# Altium integrated library RES 0805.IntLib: 17 symbols
Pins are listed as number, name and electrical type; pins without a type are passive.

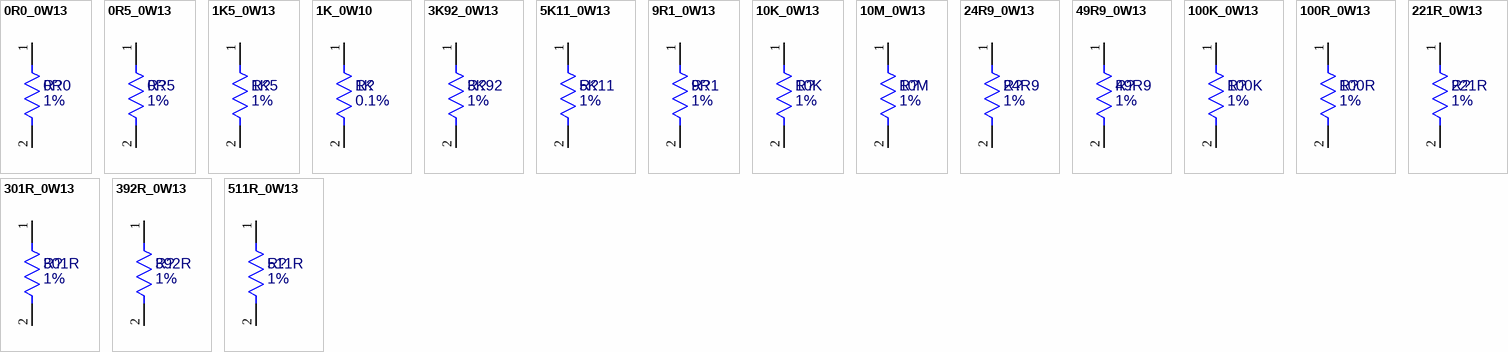
[diagram p0: symbols 0R0_0W13 to 511R_0W13]

## 0R0_0W13
designator R?, comment value 0R0  Tolerance: 1%  (hidden comment: 27452-0014)
Resistor, 0.0 Ohms; Power Rating: 0W13; ECAD_Revision: 1; Librariain: US; PartNumber: 27452-0014; Item: *
footprint R0805
pins: 1, 2

## 0R5_0W13
designator R?, comment value 0R5  Tolerance: 1%  (hidden comment: AWT25-500108)
Resistor, 0.50 Ohms; Power Rating: 0W13; ECAD_Revision: 1; Librariain: US; PartNumber: AWT25-500108; Item: *
footprint R0805
pins: 1, 2

## 1K5_0W13
designator R?, comment value 1K5  Tolerance: 1%  (hidden comment: 48668-3097)
Resistor, 1.5K; Power Rating: 0W13; ECAD_Revision: 1; Librariain: US; PartNumber: 48668-3097; Item: *
footprint R0805
pins: 1, 2

## 1K_0W10
designator R?, comment value 1K  Tolerance: 0.1%  (hidden comment: AWT25-500096)
Resistor, 1K Ultra Precision; Power Rating: 0W10; ECAD_Revision: 1; Librariain: US; PartNumber: AWT25-500096; Item: *; HelpURL: K:\ACCELEDA\PDF Spec Files\Resistor\RN73.pdf
footprint R0805
pins: 1, 2

## 3K92_0W13
designator R?, comment value 3K92  Tolerance: 1%  (hidden comment: 48668-3493)
Resistor, 3.92K; Power Rating: 0W13; ECAD_Revision: 1; Librariain: US; PartNumber: 48668-3493; Item: *
footprint R0805
pins: 1, 2

## 5K11_0W13
designator R?, comment value 5K11  Tolerance: 1%  (hidden comment: 48668-3600)
Resistor, 5.11K; Power Rating: 0W13; ECAD_Revision: 1; Librariain: US; PartNumber: 48668-3600; Item: *
footprint R0805
pins: 1, 2

## 9R1_0W13
designator R?, comment value 9R1  Tolerance: 1%  (hidden comment: 48668-0960)
Resistor, 9.1 Ohms; Power Rating: 0W13; ECAD_Revision: 1; Librariain: US; PartNumber: 48668-0960; Item: *
footprint R0805
pins: 1, 2

## 10K_0W13
designator R?, comment value 10K  Tolerance: 1%  (hidden comment: 48668-3881)
Resistor, 10K; Power Rating: 0W13; ECAD_Revision: 1; Librariain: US; PartNumber: 48668-3881; Item: *
footprint R0805
pins: 1, 2

## 10M_0W13
designator R?, comment value 10M  Tolerance: 1%  (hidden comment: 48668-6769)
Resistor, 10 MEG; Power Rating: 0W13; ECAD_Revision: 1; Librariain: US; PartNumber: 48668-6769; Item: *
footprint R0805
pins: 1, 2

## 24R9_0W13
designator R?, comment value 24R9  Tolerance: 1%  (hidden comment: 48668-1380)
Resistor, 24.9 Ohms; Power Rating: 0W13; ECAD_Revision: 1; Librariain: US; PartNumber: 48668-1380; Item: *
footprint R0805
pins: 1, 2

## 49R9_0W13
designator R?, comment value 49R9  Tolerance: 1%  (hidden comment: 48668-1679)
Resistor, 49.9 Ohms; Power Rating: 0W13; ECAD_Revision: 1; Librariain: US; PartNumber: 48668-1679; Item: *
footprint R0805
pins: 1, 2

## 100K_0W13
designator R?, comment value 100K  Tolerance: 1%  (hidden comment: 48668-4848)
Resistor, 100K; Power Rating: 0W13; ECAD_Revision: 1; Librariain: US; PartNumber: 48668-4848; Item: *
footprint R0805
pins: 1, 2

## 100R_0W13
designator R?, comment value 100R  Tolerance: 1%  (hidden comment: 48668-1968)
Resistor, 100 Ohms; Power Rating: 0W13; ECAD_Revision: 1; Librariain: US; PartNumber: 48668-1968; Item: *
footprint R0805
pins: 1, 2

## 221R_0W13
designator R?, comment value 221R  Tolerance: 1%  (hidden comment: 48668-2297)
Resistor, 221 Ohms; Power Rating: 0W13; ECAD_Revision: 1; Librariain: US; PartNumber: 48668-2297; Item: *
footprint R0805
pins: 1, 2

## 301R_0W13
designator R?, comment value 301R  Tolerance: 1%  (hidden comment: 48668-2420)
Resistor, 301 Ohms; Power Rating: 0W13; ECAD_Revision: 1; Librariain: US; PartNumber: 48668-2420; Item: *
footprint R0805
pins: 1, 2

## 392R_0W13
designator R?, comment value 392R  Tolerance: 1%  (hidden comment: 48668-2537)
Resistor, 392 Ohms; Power Rating: 0W13; ECAD_Revision: 1; Librariain: US; PartNumber: 48668-2537; Item: *
footprint R0805
pins: 1, 2

## 511R_0W13
designator R?, comment value 511R  Tolerance: 1%  (hidden comment: 48668-2644)
Resistor, 511 Ohms; Power Rating: 0W13; ECAD_Revision: 1; Librariain: US; PartNumber: 48668-2644; Item: *
footprint R0805
pins: 1, 2